# Altium footprint library MRIamp.PcbLib: 3 footprints
Each footprint in its own frame and in the unit in brackets; x right, y up, seen from the top. Pads: shape width x height; smd on the part's side, far side on the other; paste and mask are expansions set on the pad; w line width, h text height; cw(c..) or ccw(c..) is an arc to the next point about the centre after c.
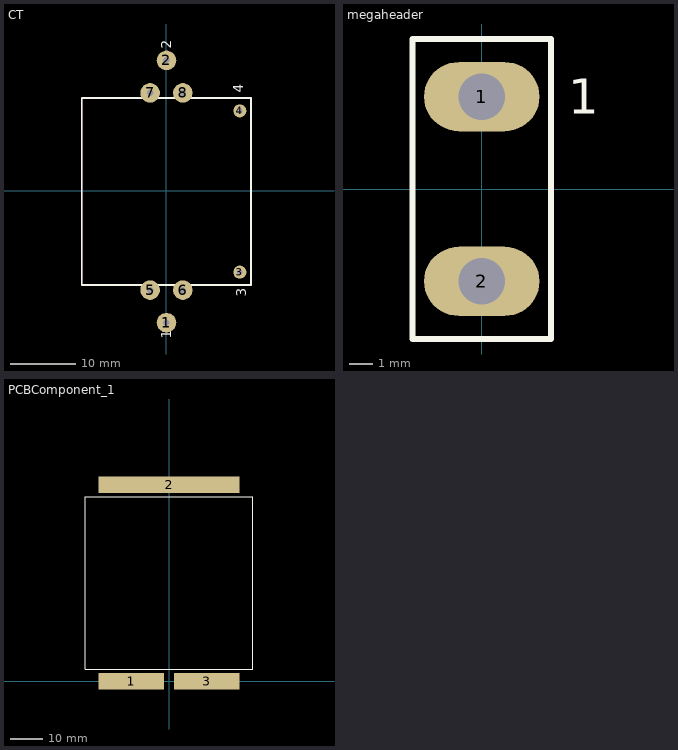
[diagram p0: the footprints below, top view; thin cyan lines are the x and y axes]

## CT [mm]
pads (8):
  round 3 hole 1: 1(0,-20.25) 2(0,20) 5(-2.5,-15.25) 6(2.5,-15.25) 7(-2.5,15) 8(2.5,15)
  round 2 hole 0.9: 3(11.25,-12.5) 4(11.25,12.25)
Top Overlay:
  lines w0.3: -13,-14.5 13,-14.5 13,-13.74 13,14.25 -13,14.25 -13,-14.24 -13,-14.5
  text "3" at 12.25,-16.25 h1.52
  text "4" at 11.75,15 h1.52
  text "2" at 0.75,21.75 h1.52
  text "1" at 0.75,-22.75 h1.52
Mechanical 1:
  lines w0.3: -13,-14.5 13,-14.5 13,-13.74 13,14.25 -13,14.25 -13,-14.24 -13,-14.5
  text "3" at 12.25,-16.25 h1.52
  text "4" at 11.75,15 h1.52

## megaheader [mm]
pads (2):
  oval 5x3 hole 2: 1(0,4) 2(0,-4)
Top Overlay:
  lines w0.254: -3,-6.5 3,-6.5 3,6.5 -3,6.5 -3,-6.5
  text "1" at 3.75,3.25 h1.52

## PCBComponent_1 [mil]
pads (3):
  rect 800x200 smd: 1(-460,0) 3(460,0)
  rect 1725x200 smd: 2(0,2400)
Top Overlay:
  lines w10: -1024,145 1024,145 1024,2255 -1024,2255 -1024,145